# EAGLE library part USB-AB (library SparkFun-Connectors)
This is a USB AB connector that is compatible with USB OTG. i.e. this connector can serve as a host or device
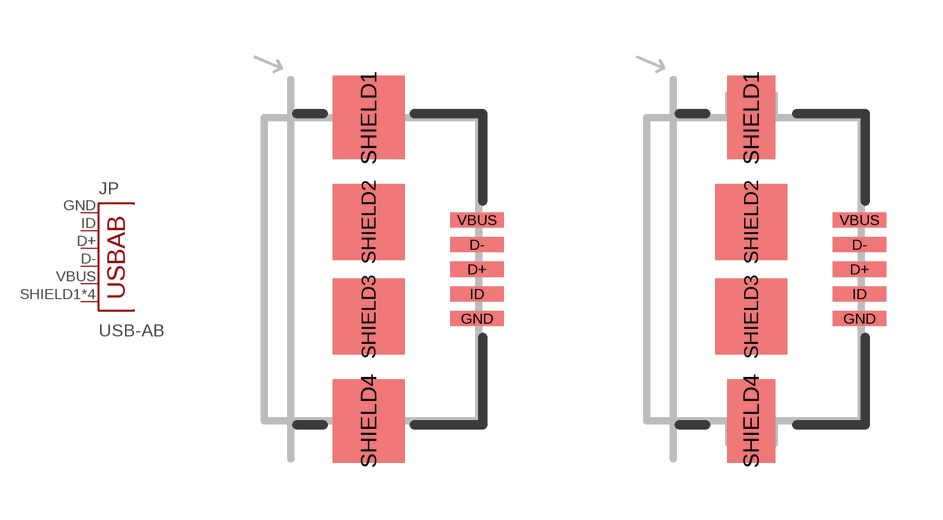
[diagram p72: symbol with the pads of USB-AB-MICRO-SMD; footprints USB-AB-MICRO-SMD, USB_AB_MICRO_1:1_V2]

Designator prefix JP

## USB-AB  [USB-AB-MICRO-SMD]
D+  D+
D-  D-
GND  GND
ID  USBID
SHIELD1  SHIELD
SHIELD2  SHIELD
SHIELD3  SHIELD
SHIELD4  SHIELD
VBUS  VBUS

## USB-AB"  [USB_AB_MICRO_1:1_V2]
Pads as for USB-AB-MICRO-SMD

## USB-ABCONN-11794 (PROD_ID: CONN-11794)  [USB-AB-MICRO-SMD_V03]
D+1  D+
D-1  D-
GND1  GND
ID1  USBID
SHIELD1  SHIELD
SHIELD2  SHIELD
SHIELD3  SHIELD
VBUS1  VBUS

## Footprint USB-AB-MICRO-SMD (pad centres in mm)
micro USB AB connector for OTG support. 5-pins: USBVCC, GND, D+, D-, USBID. Can act as host or device
smd 1.4 x 0.4: D+ 2.85,0; D- 2.85,0.65; GND 2.85,-1.3; ID 2.85,-0.65; VBUS 2.85,1.3
smd 1.9 x 2.2: SHIELD1 0,4; SHIELD4 0,-4
smd 1.9 x 2: SHIELD2 0,1.25; SHIELD3 0,-1.25

## Footprint USB_AB_MICRO_1:1_V2 (pad centres in mm)
smd 1.4 x 0.4: D+ 2.85,0; D- 2.85,0.65; GND 2.85,-1.3; ID 2.85,-0.65; VBUS 2.85,1.3
smd 1.27 x 2.2: SHIELD1 0,4; SHIELD4 0,-4
smd 1.9 x 2: SHIELD2 0,1.25; SHIELD3 0,-1.25

## Footprint USB-AB-MICRO-SMD_V03 (pad centres in mm)
smd 1.4 x 0.4: D+1 2.7,0; D-1 2.7,0.65; GND1 2.7,-1.3; ID1 2.7,-0.65; VBUS1 2.7,1.3
smd 1.5 x 1.8: SHIELD1 0,3.68; SHIELD3 0,-3.68
smd 1.5 x 2.5: SHIELD2 0,0
hole 0.85 at 2.2,1.9
hole 0.85 at 2.2,-1.9